# EAGLE library part CH330 (library V15_USB_isolator)
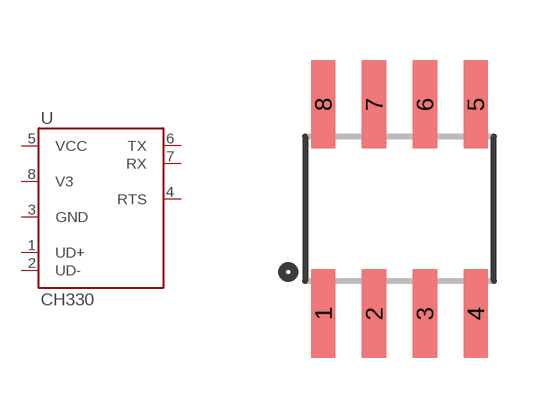
[diagram p1: symbol with the pads of SO08; footprint SO08]

Designator prefix U

## CH330  [SO08]
1  UD+
2  UD-
3  GND
4  RTS
5  VCC
6  TX
7  RX
8  V3

## Footprint SO08 (pad centres in mm)
Small Outline Package Fits JEDEC packages (narrow SOIC-8)
smd 0.61 x 2.21: 1 -1.905,-2.616; 2 -0.635,-2.616; 3 0.635,-2.616; 4 1.905,-2.616; 5 1.905,2.616; 6 0.635,2.616; 7 -0.635,2.616; 8 -1.905,2.616